# EAGLE library part LTC1711 (library meng)
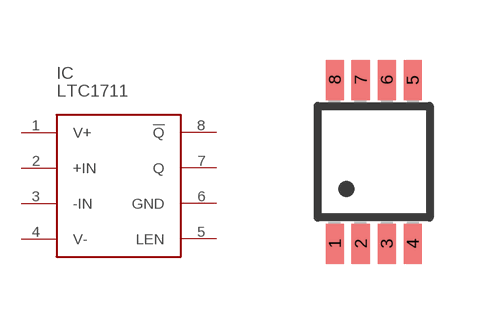
[diagram p4: symbol with the pads of MSOP8; footprint MSOP8]

Designator prefix IC

## LTC1711  [MSOP8]
1  V+
2  +IN
3  -IN
4  V-
5  LEN
6  GND
7  Q
8  !Q

## Footprint MSOP8 (pad centres in mm)
Micro Small Outline Package Grid .65mm
smd 0.45 x 1: 1 -0.975,-2.05; 2 -0.325,-2.05; 3 0.325,-2.05; 4 0.975,-2.05; 5 0.975,2.05; 6 0.325,2.05; 7 -0.325,2.05; 8 -0.975,2.05